# Altium footprint library USB_TYPE_A_SOCKET.PcbLib: 1 footprints
Each footprint in its own frame and in the unit in brackets; x right, y up, seen from the top. Pads: shape width x height; smd on the part's side, far side on the other; paste and mask are expansions set on the pad; w line width, h text height; cw(c..) or ccw(c..) is an arc to the next point about the centre after c.
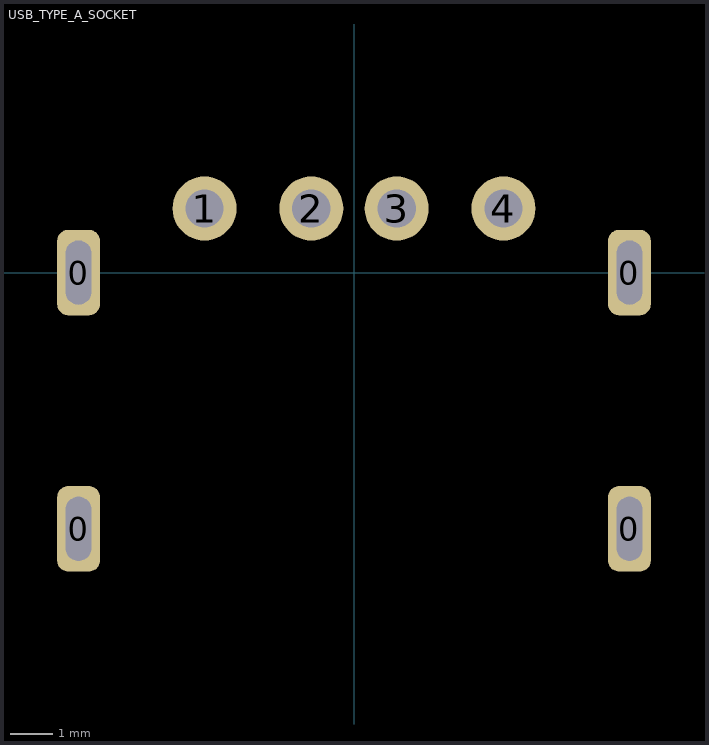
[diagram p0: the footprint, top view; thin cyan lines are the x and y axes]

## USB_TYPE_A_SOCKET [mm]
pads (8):
  rrect50% 1x2 hole 0.6 slot 1.5 at 90 deg: 0(-6.45,-6) 0(-6.45,0) 0(6.45,-6) 0(6.45,0)
  round 1.5 hole 0.9: 1(-3.5,1.5) 2(-1,1.5) 3(1,1.5) 4(3.5,1.5)
3D body: height 6, standoff 0, extent -6,-9.25 6,3.75